# EAGLE library part 693072010801 (library WR-CRD)
WR-CRD Micro SD Card Connector Hinge 8 pins Kind Properties Gender Socket Type Hinge General Information Operating Temperature -25 up to +85 °C Material Properties Insulator Material LCP Insulator Flammability Rating UL94 V-0 Insulator Color Black Contact Material Copper Alloy Contact Plating Selective Gold Contact Type Stamped Shielding Material Stainless Steel Electrical Properties Working Voltage 100 V (AC) Withstanding Voltage 500 V (AC) Contact Resistance 100 mΩ <https://www.we-online.com/components/media/o33063v209%20Family_05_SMT_ZIF_Horizontal_p294_WR-FPC_6871xx182122_4C.jpg> Details see: www.we-online.com/en/components/products/CRD_SD_MICRO_HINGEL_8_PINS Updated by Ella Wu 2020-04-15 2020(C) Wurth Elektronik
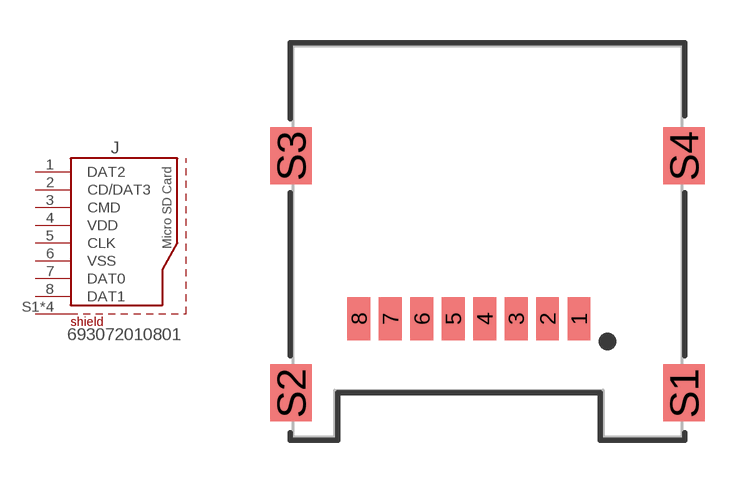
[diagram p1: symbol with the pads of 693072010801; footprint 693072010801]

Designator prefix J

## 693072010801 (DATASHEET-URL: https://www.we-online.com/redexpert/spec/693072010801?ae; GERDER: Socket; IR: 0.5A; MOUNT: SMT; PART-NUMBER: 693072010801; PINS: 8; TYPE: Hinge; VALUE: 693072010801; WORKING-VOLTAGE: 100V(AC))  [693072010801]
1  DAT2
2  CD/DAT3
3  CMD
4  VDD
5  CLK
6  VSS
7  DAT0
8  DAT1
S1  SHIELD
S2  SHIELD
S3  SHIELD
S4  SHIELD

## Footprint 693072010801 (pad centres in mm)
WR-CRD Micro SD Card Connector Hinge 8 pins
smd 0.8 x 1.5: 1 3.2,-2.7; 2 2.1,-2.7; 3 1,-2.7; 4 -0.1,-2.7; 5 -1.2,-2.7; 6 -2.3,-2.7; 7 -3.4,-2.7; 8 -4.5,-2.7
smd 1.45 x 2: S1 6.875,-5.3; S2 -6.875,-5.3; S3 -6.875,3; S4 6.875,3